# Altium schematic symbol library 3296W-1-103LF.SchLib: 1 symbol
Pins are listed as number, name and electrical type; pins without a type are passive.

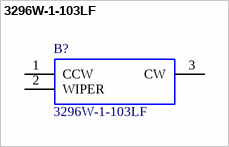
[diagram p0: symbol 3296W-1-103LF]

## 3296W-1-103LF
designator B?
Bourns 3296W Series 25-Turn Through Hole Cermet Trimmer Resistor with Pin Terminations, 10000???? ????10% 1/2W ????100ppm/????C; Allied_Number: 70153918; Geometry.Height: 11.55mm; Supplier_Name: RS; RS Part Number: 5219647P; Manufacturer_Name: Bourns; Manufacturer_Part_Number: 3296W-1-103LF; Other Part Number: *; Datasheet Link: http://docs-europe.electrocomponents.com/webdocs/069c/0900766b8069ccf4.pdf; 3D Package: *
footprint SHDR3W54P0X254_1X3_953X483X1155P
pins: 1 CCW, 2 WIPER, 3 CW